# EAGLE library part SI1922EDH-T1-GE3 (library Vishay_By_element14_Batch_1)
N-Channel MOSFET
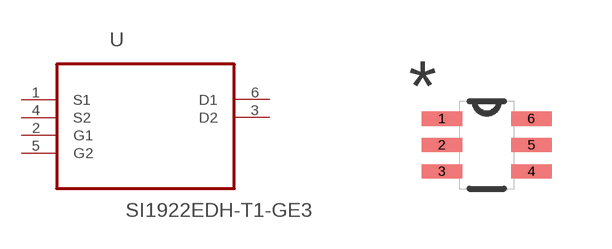
[diagram p77: symbol with the pads of SOT65P210X110-6N; footprint SOT65P210X110-6N]

Designator prefix U

## SI1922EDH-T1-GE3 (MPN: SI1922EDH-T1-GE3; OC_FARNELL: 2056714; OC_NEWARK: 64T4056; PACKAGE: SOT-6; SUPPLIER: Vishay Siliconix)  [SOT65P210X110-6N]
1  S1  pas
2  G1  pas
3  D2  pas
4  S2  pas
5  G2  pas
6  D1  pas

## Footprint SOT65P210X110-6N (pad centres in mm)
smd 1.016 x 0.356: 1 -1.118,0.66; 2 -1.118,0; 3 -1.118,-0.66; 4 1.118,-0.66; 5 1.118,0; 6 1.118,0.66